# Altium footprint library QFN.PcbLib: 20 footprints (part 2 of 2)
Each footprint in its own frame and in the unit in brackets; x right, y up, seen from the top. Pads: shape width x height; smd on the part's side, far side on the other; paste and mask are expansions set on the pad; w line width, h text height; cw(c..) or ccw(c..) is an arc to the next point about the centre after c.
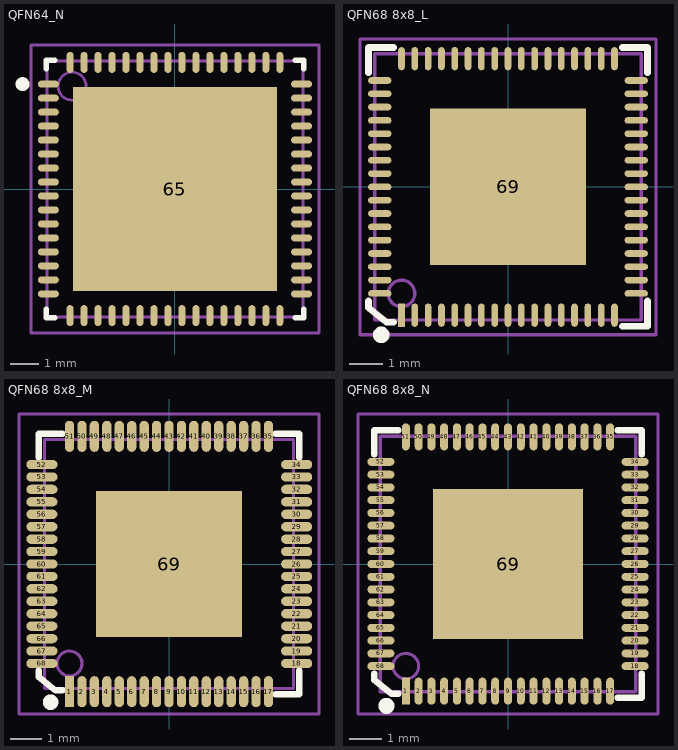
[diagram p1: the footprints below, top view; thin cyan lines are the x and y axes]

## QFN64_N [mm] "QFN, 64-Leads, Body 9x9mm, Pitch 0.5mm, IPC Medium Density"
height 1
pads (65):
  oval 0.75x0.25 smd: 1(-4.525,3.75) 2(-4.525,3.25) 3(-4.525,2.75) 4(-4.525,2.25) 5(-4.525,1.75) 6(-4.525,1.25) 7(-4.525,0.75) 8(-4.525,0.25) 9(-4.525,-0.25) 10(-4.525,-0.75) 11(-4.525,-1.25) 12(-4.525,-1.75) 13(-4.525,-2.25) 14(-4.525,-2.75) 15(-4.525,-3.25) 16(-4.525,-3.75) 33(4.525,-3.75) 34(4.525,-3.25) 35(4.525,-2.75) 36(4.525,-2.25) 37(4.525,-1.75) 38(4.525,-1.25) 39(4.525,-0.75) 40(4.525,-0.25) 41(4.525,0.25) 42(4.525,0.75) 43(4.525,1.25) 44(4.525,1.75) 45(4.525,2.25) 46(4.525,2.75) 47(4.525,3.25) 48(4.525,3.75)
  oval 0.25x0.75 smd: 17(-3.75,-4.525) 18(-3.25,-4.525) 19(-2.75,-4.525) 20(-2.25,-4.525) 21(-1.75,-4.525) 22(-1.25,-4.525) 23(-0.75,-4.525) 24(-0.25,-4.525) 25(0.25,-4.525) 26(0.75,-4.525) 27(1.25,-4.525) 28(1.75,-4.525) 29(2.25,-4.525) 30(2.75,-4.525) 31(3.25,-4.525) 32(3.75,-4.525) 49(3.75,4.525) 50(3.25,4.525) 51(2.75,4.525) 52(2.25,4.525) 53(1.75,4.525) 54(1.25,4.525) 55(0.75,4.525) 56(0.25,4.525) 57(-0.25,4.525) 58(-0.75,4.525) 59(-1.25,4.525) 60(-1.75,4.525) 61(-2.25,4.525) 62(-2.75,4.525) 63(-3.25,4.525) 64(-3.75,4.525)
  rect 7.3x7.3 smd: 65(0,0)
Top Overlay:
  circle w0.25: c-5.45,3.75 r0.125
  lines w0.2: -4.6,-4.3 -4.6,-4.6 -4.3,-4.6 ; -4.6,4.3 -4.6,4.6 -4.3,4.6 ; 4.3,-4.6 4.6,-4.6 4.6,-4.3 ; 4.3,4.6 4.6,4.6 4.6,4.3
Mechanical 13:
  circle w0.1: c-3.675,3.675 r0.5
  lines w0.1: -4.575,-4.575 4.575,-4.575 4.575,4.575 -4.575,4.575 -4.575,-4.575
Mechanical 15:
  circle w0.05: c0,0 r0.35
  lines w0.05: -0.5,0 0.5,0 ; 0,-0.5 0,0.5
  lines w0.1: -5.15,-5.15 5.15,-5.15 5.15,5.15 -5.15,5.15 -5.15,-5.15
3D body: height 0.9, standoff 0, extent -4.52,-4.52 4.52,4.52

## QFN68 8x8_L [mm] "68脚，长：8mm，宽：8mm，高：8.5mm"
pads (69):
  rect 0.2x0.7 smd: 1(-3.2,-3.854)
  oval 0.2x0.7 smd: 2(-2.8,-3.854) 3(-2.4,-3.854) 4(-2,-3.854) 5(-1.6,-3.854) 6(-1.2,-3.854) 7(-0.8,-3.854) 8(-0.4,-3.854) 9(0,-3.854) 10(0.4,-3.854) 11(0.8,-3.854) 12(1.2,-3.854) 13(1.6,-3.854) 14(2,-3.854) 15(2.4,-3.854) 16(2.8,-3.854) 17(3.2,-3.854) 35(3.2,3.854) 36(2.8,3.854) 37(2.4,3.854) 38(2,3.854) 39(1.6,3.854) 40(1.2,3.854) 41(0.8,3.854) 42(0.4,3.854) 43(0,3.854) 44(-0.4,3.854) 45(-0.8,3.854) 46(-1.2,3.854) 47(-1.6,3.854) 48(-2,3.854) 49(-2.4,3.854) 50(-2.8,3.854) 51(-3.2,3.854)
  oval 0.7x0.2 smd: 18(3.854,-3.2) 19(3.854,-2.8) 20(3.854,-2.4) 21(3.854,-2) 22(3.854,-1.6) 23(3.854,-1.2) 24(3.854,-0.8) 25(3.854,-0.4) 26(3.854,0) 27(3.854,0.4) 28(3.854,0.8) 29(3.854,1.2) 30(3.854,1.6) 31(3.854,2) 32(3.854,2.4) 33(3.854,2.8) 34(3.854,3.2) 52(-3.854,3.2) 53(-3.854,2.8) 54(-3.854,2.4) 55(-3.854,2) 56(-3.854,1.6) 57(-3.854,1.2) 58(-3.854,0.8) 59(-3.854,0.4) 60(-3.854,0) 61(-3.854,-0.4) 62(-3.854,-0.8) 63(-3.854,-1.2) 64(-3.854,-1.6) 65(-3.854,-2) 66(-3.854,-2.4) 67(-3.854,-2.8) 68(-3.854,-3.2)
  rect 4.7x4.7 smd: 69(0,0)
Top Overlay:
  circle w0.25: c-3.81,-4.445 r0.125
  lines w0.2: -4.191,-3.429 -4.191,-3.632 -3.651,-4.064 -3.429,-4.064 ; -4.191,3.429 -4.191,4.191 -3.429,4.191 ; 3.429,-4.191 4.191,-4.191 4.191,-3.429 ; 3.429,4.191 4.191,4.191 4.191,3.429
Mechanical 13:
  circle w0.1: c-3.2,-3.2 r0.4
  lines w0.1: -4,-4 4,-4 4,4.001 -4.001,4.001 -4,-4
Mechanical 15:
  circle w0.05: c0,0 r0.35
  lines w0.05: -0.5,0 0.5,0 ; 0,-0.5 0,0.5
  lines w0.1: -4.445,-4.445 4.445,-4.445 4.445,4.445 -4.445,4.445 -4.445,-4.445
3D body: height 0.88, standoff 0, extent -4.001,-4.001 4.001,4.001

## QFN68 8x8_M [mm] "68脚，长：8mm，宽：8mm，高：8.5mm"
pads (69):
  rect 0.3x1 smd: 1(-3.2,-4.108)
  oval 0.3x1 smd: 2(-2.8,-4.108) 3(-2.4,-4.108) 4(-2,-4.108) 5(-1.6,-4.108) 6(-1.2,-4.108) 7(-0.8,-4.108) 8(-0.4,-4.108) 9(0,-4.108) 10(0.4,-4.108) 11(0.8,-4.108) 12(1.2,-4.108) 13(1.6,-4.108) 14(2,-4.108) 15(2.4,-4.108) 16(2.8,-4.108) 17(3.2,-4.108) 35(3.2,4.108) 36(2.8,4.108) 37(2.4,4.108) 38(2,4.108) 39(1.6,4.108) 40(1.2,4.108) 41(0.8,4.108) 42(0.4,4.108) 43(0,4.108) 44(-0.4,4.108) 45(-0.8,4.108) 46(-1.2,4.108) 47(-1.6,4.108) 48(-2,4.108) 49(-2.4,4.108) 50(-2.8,4.108) 51(-3.2,4.108)
  oval 1x0.3 smd: 18(4.108,-3.2) 19(4.108,-2.8) 20(4.108,-2.4) 21(4.108,-2) 22(4.108,-1.6) 23(4.108,-1.2) 24(4.108,-0.8) 25(4.108,-0.4) 26(4.108,0) 27(4.108,0.4) 28(4.108,0.8) 29(4.108,1.2) 30(4.108,1.6) 31(4.108,2) 32(4.108,2.4) 33(4.108,2.8) 34(4.108,3.2) 52(-4.089,3.2) 53(-4.089,2.8) 54(-4.089,2.4) 55(-4.089,2) 56(-4.089,1.6) 57(-4.089,1.2) 58(-4.089,0.8) 59(-4.089,0.4) 60(-4.089,0) 61(-4.089,-0.4) 62(-4.089,-0.8) 63(-4.089,-1.2) 64(-4.089,-1.6) 65(-4.089,-2) 66(-4.089,-2.4) 67(-4.089,-2.8) 68(-4.089,-3.2)
  rect 4.7x4.7 smd: 69(0,0)
Top Overlay:
  circle w0.25: c-3.81,-4.445 r0.125
  lines w0.2: -4.191,-3.429 -4.191,-3.632 -3.651,-4.064 -3.429,-4.064 ; -4.191,3.429 -4.191,4.191 -3.429,4.191 ; 3.429,-4.191 4.191,-4.191 4.191,-3.429 ; 3.429,4.191 4.191,4.191 4.191,3.429
Mechanical 13:
  circle w0.1: c-3.2,-3.2 r0.4
  lines w0.1: -4,-4 -4,4.001 4,4.001 4,-4 -4,-4
Mechanical 15:
  circle w0.05: c0,0 r0.35
  lines w0.05: -0.5,0 0.5,0 ; 0,-0.5 0,0.5
  lines w0.1: -4.826,-4.826 -4.826,4.826 4.826,4.826 4.826,-4.826 -4.826,-4.826
3D body: height 0.88, standoff 0, extent -4.001,-4.001 4.001,4.001

## QFN68 8x8_N [mm] "68脚，长：8mm，宽：8mm，高：8.5mm"
pads (69):
  rect 0.25x0.85 smd: 1(-3.2,-3.981)
  oval 0.25x0.85 smd: 2(-2.8,-3.981) 3(-2.4,-3.981) 4(-2,-3.981) 5(-1.6,-3.981) 6(-1.2,-3.981) 7(-0.8,-3.981) 8(-0.4,-3.981) 9(0,-3.981) 10(0.4,-3.981) 11(0.8,-3.981) 12(1.2,-3.981) 13(1.6,-3.981) 14(2,-3.981) 15(2.4,-3.981) 16(2.8,-3.981) 17(3.2,-3.981) 35(3.2,3.981) 36(2.8,3.981) 37(2.4,3.981) 38(2,3.981) 39(1.6,3.981) 40(1.2,3.981) 41(0.8,3.981) 42(0.4,3.981) 43(0,3.981) 44(-0.4,3.981) 45(-0.8,3.981) 46(-1.2,3.981) 47(-1.6,3.981) 48(-2,3.981) 49(-2.4,3.981) 50(-2.8,3.981) 51(-3.2,3.981)
  oval 0.85x0.25 smd: 18(3.981,-3.2) 19(3.981,-2.8) 20(3.981,-2.4) 21(3.981,-2) 22(3.981,-1.6) 23(3.981,-1.2) 24(3.981,-0.8) 25(3.981,-0.4) 26(3.981,0) 27(3.981,0.4) 28(3.981,0.8) 29(3.981,1.2) 30(3.981,1.6) 31(3.981,2) 32(3.981,2.4) 33(3.981,2.8) 34(3.981,3.2) 52(-3.981,3.2) 53(-3.981,2.8) 54(-3.981,2.4) 55(-3.981,2) 56(-3.981,1.6) 57(-3.981,1.2) 58(-3.981,0.8) 59(-3.981,0.4) 60(-3.981,0) 61(-3.981,-0.4) 62(-3.981,-0.8) 63(-3.981,-1.2) 64(-3.981,-1.6) 65(-3.981,-2) 66(-3.981,-2.4) 67(-3.981,-2.8) 68(-3.981,-3.2)
  rect 4.7x4.7 smd: 69(0,0)
Top Overlay:
  circle w0.25: c-3.81,-4.445 r0.125
  lines w0.2: -4.191,-3.429 -4.191,-3.632 -3.651,-4.064 -3.429,-4.064 ; -4.191,3.429 -4.191,4.191 -3.429,4.191 ; 3.429,-4.191 4.191,-4.191 4.191,-3.429 ; 3.429,4.191 4.191,4.191 4.191,3.429
Mechanical 13:
  circle w0.1: c-3.2,-3.2 r0.4
  lines w0.1: -4,-4 4,-4 4,4.001 -4.001,4.001 -4,-4
Mechanical 15:
  circle w0.05: c0,0 r0.35
  lines w0.05: -0.5,0 0.5,0 ; 0,-0.5 0,0.5
  lines w0.1: -4.699,-4.699 4.699,-4.699 4.699,4.699 -4.699,4.699 -4.699,-4.699
3D body: height 0.88, standoff 0, extent -4.001,-4.001 4.001,4.001